# EAGLE library part MA17-2 (library C1600R)
PIN HEADER
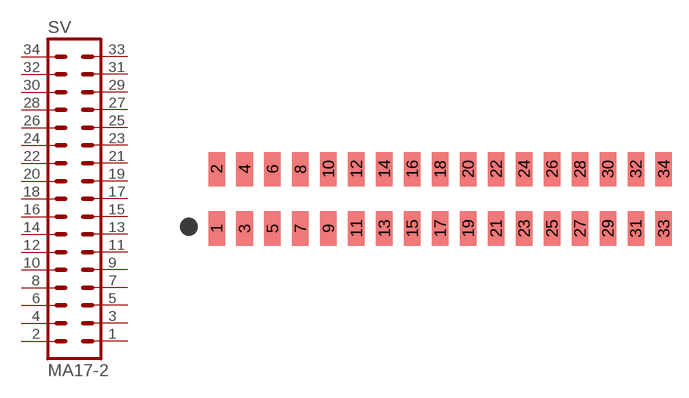
[diagram p1: symbol with the pads of MA17-2-SMT; footprint MA17-2-SMT]

Designator prefix SV

## MA17-2-SMT  [MA17-2-SMT]
1  1  pas
2  2  pas
3  3  pas
4  4  pas
5  5  pas
6  6  pas
7  7  pas
8  8  pas
9  9  pas
10  10  pas
11  11  pas
12  12  pas
13  13  pas
14  14  pas
15  15  pas
16  16  pas
17  17  pas
18  18  pas
19  19  pas
20  20  pas
21  21  pas
22  22  pas
23  23  pas
24  24  pas
25  25  pas
26  26  pas
27  27  pas
28  28  pas
29  29  pas
30  30  pas
31  31  pas
32  32  pas
33  33  pas
34  34  pas

## Footprint MA17-2-SMT (pad centres in mm)
smd 1.5 x 3.1: 1 -20.32,-2.7; 2 -20.32,2.7; 3 -17.78,-2.7; 4 -17.78,2.7; 5 -15.24,-2.7; 6 -15.24,2.7; 7 -12.7,-2.7; 8 -12.7,2.7; 9 -10.16,-2.7; 10 -10.16,2.7; 11 -7.62,-2.7; 12 -7.62,2.7; 13 -5.08,-2.7; 14 -5.08,2.7; 15 -2.54,-2.7; 16 -2.54,2.7; 17 0,-2.7; 18 0,2.7; 19 2.54,-2.7; 20 2.54,2.7; 21 5.08,-2.7; 22 5.08,2.7; 23 7.62,-2.7; 24 7.62,2.7; 25 10.16,-2.7; 26 10.16,2.7; 27 12.7,-2.7; 28 12.7,2.7; 29 15.24,-2.7; 30 15.24,2.7; 31 17.78,-2.7; 32 17.78,2.7; 33 20.32,-2.7; 34 20.32,2.7